# EAGLE library part TVRB4824LD-50WR3 (library TVRB4824LD-50WR3_TDPOWER)
Isolated DC/DC Converters DC-DC Converter, 7.5 Watt, EN55022 Class B, 18-36VDC Input, +/-12VDC Output, Remote ON/OFF, DIP Source: Datasheet <https://www.cincon.com/productdownload/Datasheet-EC3BB-series.pdf>
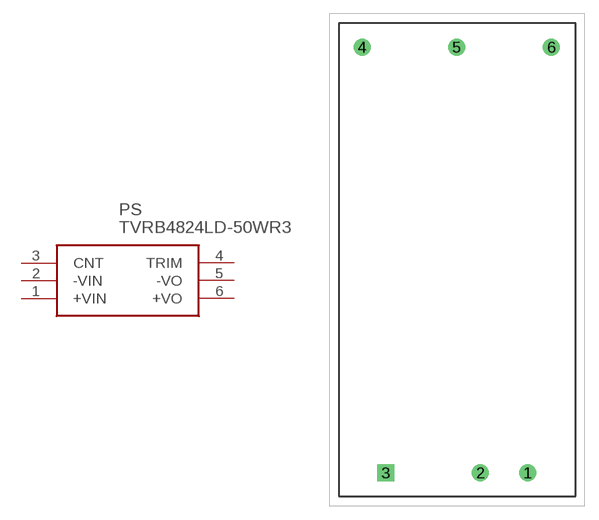
[diagram p0: symbol with the pads of TVRB4824LD-50WR3; footprint TVRB4824LD-50WR3]

Designator prefix PS

## TVRB4824LD-50WR3 (DESCRIPTION: DC to DC Converters Radial Through Hole Nominal Input Voltage:36 V to 72 V Min Input Voltage:36 V Max Input Voltage:72 V 92 %; HEIGHT: 15 mm; MANUFACTURER_NAME: TDPOWER; MANUFACTURER_PART_NUMBER: TVRB4824LD-50WR3)  [TVRB4824LD-50WR3]
1  +VIN
2  -VIN
3  CNT
4  TRIM
5  -VO
6  +VO

## Footprint TVRB4824LD-50WR3 (pad centres in mm)
EC3BB14T-2
drill 1.22 pad 1.83: 1 5.08,-12.7; 2 0,-12.7; 4 -12.7,33.02; 5 -2.54,33.02; 6 7.62,33.02
drill 1.22 pad 1.83 square: 3 -10.16,-12.7